# Altium footprint library CAPC0402(1005)60_N.PcbLib: 1 footprints
Each footprint in its own frame and in the unit in brackets; x right, y up, seen from the top. Pads: shape width x height; smd on the part's side, far side on the other; paste and mask are expansions set on the pad; w line width, h text height; cw(c..) or ccw(c..) is an arc to the next point about the centre after c.
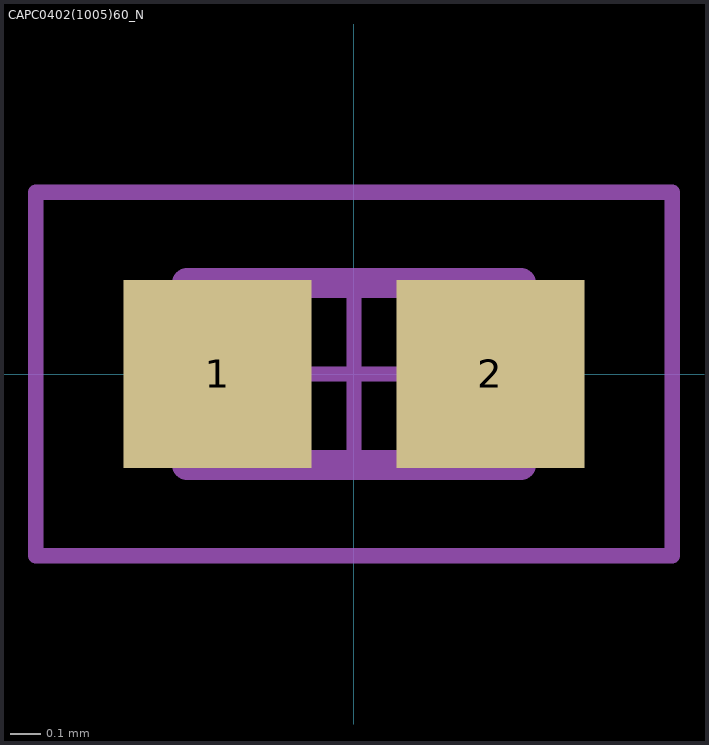
[diagram p0: the footprint, top view; thin cyan lines are the x and y axes]

## CAPC0402(1005)60_N [mm] "Chip Capacitor, Body 1.0x0.5mm, Height 0.6mm, IPC Medium Density"
height 0.6
pads (2):
  rect 0.62x0.62 smd: 1(-0.45,0) 2(0.45,0)
Mechanical 13:
  lines w0.1: -0.55,-0.3 0.55,-0.3 0.55,0.3 -0.55,0.3 -0.55,-0.3
Mechanical 15:
  lines w0.05: -0.3,0 0.3,0 ; 0,-0.3 0,0.3 ; -1.05,-0.6 1.05,-0.6 1.05,0.6 -1.05,0.6 -1.05,-0.6
3D body: height 0.6, standoff 0, extent 0.3,-0.3 0.55,0.3
3D body: height 0.6, standoff 0, extent -0.55,-0.3 -0.3,0.3
3D body: height 0.6, standoff 0, extent -0.3,-0.3 0.3,0.3